# Altium schematic symbol library UCDFR Passives.SchLib: 41 symbols
Pins are listed as number, name and electrical type; pins without a type are passive.

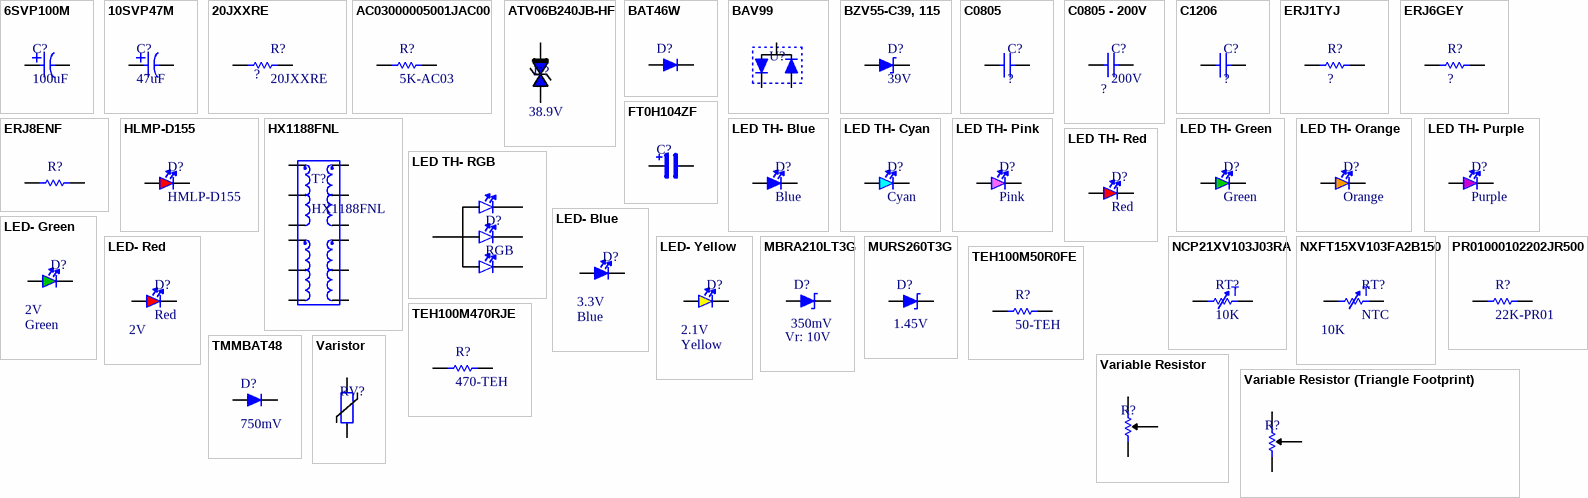
[diagram p0: symbols 6SVP100M to Varistor]

## 6SVP100M
designator C?, comment 100uF
Panasonic, Capacitor, Aluminum, 6.3V; Mfg. PN: 6SVP100M; Manufacturer: Panasonic; Digi-Key PN: P16595CT-ND; Value: 100uF
footprint 6SVP100M (Panasonic, Capacitor, Aluminum)
pins: 1 POS, 2 NEG

## 10SVP47M
designator C?, comment 47uF
Panasonic, Capacitor, Aluminum, 10V; Mfg. PN: 10SVP47M; Manufacturer: Panasonic; Digi-Key PN: P16436CT-ND; Value: 47uF
footprint 6SVP100M (Panasonic, Capacitor, Aluminum)
pins: 1 POS, 2 NEG

## 20JXXRE
designator R?
Ohmite, 10W Power Resistor; Manufacturer: Ohmite; Digi-Key PN: 20JXXRE-ND; Mfg. PN: 20JXXRE; Value: ?
footprint 20/40JXXRE (Ohmite Power Resistor)
pins: 1, 2

## AC03000005001JAC00
designator R?, comment 5K-AC03
Vishay, 3W, 5k, Power Resistor, Axial Lead; Mfg. PN: AC03000005001JAC00; Manufacturer: Vishay; Digi-Key PN: PPC3W5.0KCT-ND; Power: 3W; Value: 5K
footprint AC03 (Vishay AC03 Power Resistor)
pins: 1, 2

## ATV06B240JB-HF
designator D?, comment V: 38.9V  (hidden comment: TVS Diode)
Comchip, Bidirectional TVS, 38.9V Clamp, 24V Standoff, 600W Peak; Manufacturer: Comchip Technology; Mfg. PN: ATV06B240JB-HF; Digi-Key PN: 641-1571-1-ND
footprint DO-214AA (SMB) (Diode DO-214AA Package)
pins: 1 Cathode, 2 Anode

## BAT46W
designator D?  (value not drawn)
Diode Inc., .45Vf, Schottky Diode; Manufacturer: Diodes Inc.; Mfg. PN: BAT46W-7-F; Digi-Key PN: BAT46W-7FDICT-ND
footprint S0D123 (SOD123 Package)
pins: 1 Cathode, 2 Anode

## BAV99
designator U?  (value not drawn)
Fairchild, BAV99, 200mA, 70V Diode Pair; Manufacturer: Fairchild; Digi-Key PN: BAV99FSCT-ND; Mfg. PN: BAV99
footprint SOT-23
pins: 1, 2, 3

## BZV55-C39, 115
designator D?, comment 39V
NXP, 39V Zener Diode; Mfg. PN: BZV55-C39, 115; Digi-Key PN: 568-3793-1-ND; Zener Voltage: 39V
footprint MiniMELF (DO-213AA)
pins: 1 Cathode, 2 Anode

## C0805
designator C?, comment ?
0805, 50V; Manufacturer: ?; Digi-Key PN: ?; Mfg PN: ?; Value: ?
footprint 0805 (Capacitor) (0805)
footprint 0805 (Capacitor) (0805)
pins: 1, 2

## C0805 - 200V
designator C?, comment 200V
C0805, 200V; Value: ?
footprint 0805 (Capacitor) (0805)
pins: 1, 2

## C1206
designator C?, comment ?
1206 Capacitor; Manufacturer: ?; Digi-Key PN: ?; Mfg PN: ?; Value: ?
footprint 1206 (Capacitor) (1206)
pins: 1, 2

## ERJ1TYJ
designator R?, comment ?
Panasonic Electronics, SMD Resistor, 2512, 1Watt; Manufaturer: Panasonics Electronics; Value: ?
footprint 2512 (Resistor) (2512)
pins: 1, 2

## ERJ6GEY
designator R?, comment ?
Panasonic Electronics, SMD Resistor, 0805, 1/8Watt; Manufacturer: Panasonic Electronics; Digi-Key PN: ?; Value: ?
footprint 0805 (Resistor)
pins: 1, 2

## ERJ8ENF
designator R?, comment ?  (value not drawn)
Panasonic Electronics, SMD Resistor, 1206, 1/4Watt; Manufacturer: Panasonic Electronics; Digi-Key PN: ?; Value: ?
footprint 1206 (Resistor) (1206)
pins: 1, 2

## FT0H104ZF
designator C?, comment 100mF  (value not drawn)
Kemet, FT Series Capacitor; Mfg. PN: FT0H104ZF; Manufacturer: Kemet; Value: 100mF; Digi-Key PN: 399-10795-ND
footprint Kemet FT Supercapactor
pins: 1, 2

## HLMP-D155
designator D?, comment HMLP-D155
Avago, High Efficiency Red LED; Vf: 1.6V; Manufacturer: HMLP-D155; Mouser PN: 630-HLMP-D155; Color: Red
footprint HLMP-D115 (High Efficiency Red LED)
pins: 1 Cathode, 2 Anode

## HX1188FNL
designator T?
Pulse Electronics HX1188FNL, Dual Channel Transformer; Mfg. PN: HX1188FNL; Manufacturer: Pulse Electronics; Digi-Key PN: 553-2200-ND
footprint HX1188FNL (Pulse Electronics, HX1188FNL, Dual Channel Transformer)
pins: 1, 2, 3, 6, 7, 8, 9, 10, 11, 14, 15, 16

## LED TH- Blue
designator D?, comment Blue
Through Hole LED, 2.54mm Pitch; Vf: 1.6V; Color: Blue
footprint LED TH- Blue
pins: 1 Cathode, 2 Anode

## LED TH- Cyan
designator D?, comment Cyan
Through Hole LED, 2.54mm Pitch; Vf: 1.6V; Color: Cyan
footprint LED TH- Cyan
pins: 1 Cathode, 2 Anode

## LED TH- Green
designator D?, comment Green
Through Hole LED, 2.54mm Pitch; Vf: 1.6V; Color: Green
footprint LED TH- Green
pins: 1 Cathode, 2 Anode

## LED TH- Orange
designator D?, comment Orange
Through Hole LED, 2.54mm Pitch; Vf: 1.6V; Color: Orange
footprint LED TH- Orange
pins: 1 Cathode, 2 Anode

## LED TH- Pink
designator D?, comment Pink
Through Hole LED, 2.54mm Pitch; Vf: 1.6V; Color: Pink
footprint LED TH- Pink
pins: 1 Cathode, 2 Anode

## LED TH- Purple
designator D?, comment Purple
Through Hole LED, 2.54mm Pitch; Vf: 1.6V; Color: Purple
footprint LED TH- Purple
pins: 1 Cathode, 2 Anode

## LED TH- Red
designator D?, comment Red
Through Hole LED, 2.54mm Pitch; Vf: 1.6V; Color: Red
footprint LED TH- Red
pins: 1 Cathode, 2 Anode

## LED TH- RGB
designator D?, comment RGB
Through Hole LED, 1.27mm Pitch; Vf - Green: 3.2V; Vf - Red: 2V; Sparkfun PN: COM-10820; Color: RGB; Vf - Blue: 3.2V
footprint LED TH- RGB
pins: 1, 2, 3, 4

## LED- Blue
designator D?, comment Vf: 3.3V  (hidden comment: Blue)
Lite-On, 1206, Blue LED, 2V; Mfg. PN: LTST-C150TBKT; Digi-Key PN: 160-1643-1-ND; Color: Blue
footprint 1206 (LED) - Blue (OptoElectronics, 1206, LED, Blue)
pins: 1 Cathode, 2 Anode

## LED- Green
designator D?, comment Vf: 2V  (hidden comment: Green)
Lite-On, 1206, Green LED, 2V; Mfg. PN: LTST-C150KGKT; Digi-Key PN: 160-1404-1-ND; Color: Green
footprint 1206 (LED) - Green (OptoElectronics, 1206, LED, Green)
pins: 1 Cathode, 2 Anode

## LED- Red
designator D?, comment Red  Vf: 2V
Lite-On, 1206, Red LED, 2V; Mfg. PN: LTST-C150KRKT; Digi-Key PN: 160-1405-1-ND; Color: Red
footprint 1206 (LED) - Red (OptoElectronics, 1206, LED, Red)
pins: 1 Cathode, 2 Anode

## LED- Yellow
designator D?, comment Vf: 2.1V  (hidden comment: Yellow)
Lite-On, 1206, Yellow LED, 2V; Mfg. PN: LTST-C150KSKT; Digi-Key PN: 160-1406-1-ND; Color: Yellow
footprint 1206 (LED) - Yellow (OptoElectronics, 1206, LED, Yellow)
pins: 1 Cathode, 2 Anode

## MBRA210LT3G
designator D?  Vf: 350mV  Vr: 10V  (hidden comment: MBRA210LT3G)
ON Schottky Didoe, .35V Forward Voltage, 10V Reverse Voltage; Manufacturer: ON Semiconductor; Mfg. PN: MBRA210LT3G; Digi-Key PN: MBRA210LT3GOSCT-ND
footprint DO-214AC (SMA) (Diode DO-214AC Package)
pins: 1 Cathode, 2 Anode

## MURS260T3G
designator D?  Vf: 1.45V  (hidden comment: MURS260T3G)
ON Schottky Didoe, 1.45V Forward Voltage, 600V Reverse Voltage; Manufacturer: ON Semiconductor; Mfg. PN: MURS260T3G; Digi-Key PN: MURS260T3GOSCT-ND; Vr: 600V
footprint DO-214AC (SMA) (Diode DO-214AC Package)
pins: 1 Cathode, 2 Anode

## NCP21XV103J03RA
designator RT?, comment 10K
Murata, 10K, Thermistor; Manufacturer: Murata Electronics; Mfg. PN: NCP21XV103J03RA; Digi-Key PN: 490-2456-1-ND
footprint 0805 (Resistor)
pins: 1, 2
text: T

## NXFT15XV103FA2B150
designator RT?, comment NTC  value 10K
Murata NTC, 10K, Through Hole Thermistor; Mfg. PN: NXFT15XV103FA2B150; Mouser PN: 81-NXFT15XV103FA2B15
footprint NXFT15XV103FA2B150 (Murata, NTC Through Hole Thermistor)
pins: 1, 2
text: T

## PR01000102202JR500
designator R?, comment 22K-PR01
Vishay, 1W, 22k, Power Resistor, Axial Lead; Mfg. PN: PR01000102202JR500; Manufacturer: Vishay; Digi-Key PN: PPC22KW-1CT-ND; Power: 1W; Value: 22K
footprint PR01 (Vishay PR01 Power Resistor)
pins: 1, 2

## TEH100M50R0FE
designator R?, comment 50-TEH
Ohmite, T0-247, Power Resistor; Value: 50; Mfg. PN: TEH100M50R0FE; Manufacturer: Ohmite; Digi-Key PN: TEH100M50R0FE-ND
footprint TO-247 (TO-247 Package)
pins: 1, 2

## TEH100M470RJE
designator R?, comment 470-TEH
Ohmite, T0-247, Power Resistor; Value: 470; Mfg. PN: TEH100M470RJE; Manufacturer: Ohmite; Digi-Key PN: TEH100M470RJE-ND
footprint TO-247 (TO-247 Package)
pins: 1, 2

## TMMBAT48
designator D?  Vf: 750mV  (hidden comment: TMMBAT48)
ST, Schottky Diode, 0.75Vf, 40Vr, 350mA; Manufacturer: ST Microelectronics; Mfg. PN: TMMBAT48FILM; Vr: 40V; Digi-Key PN: 497-3274-1-ND
footprint MiniMELF (DO-213AA)
pins: 1 Cathode, 2 Anode

## Variable Resistor
designator R?, comment Trimmer Pot  (value not drawn)
Trimmer Potentiometer
footprint Variable Resistor
pins: 1, 2, 3
2 alternate drawings of the same symbol

## Variable Resistor (Triangle Footprint)
designator R?, comment Trimmer Pot  (value not drawn)
Trimmer Potentiometer
footprint Variable Resistor (Triangle Footprint)
pins: 1, 2, 3
2 alternate drawings of the same symbol

## Varistor
designator RV?  (value not drawn)
Manufacturer: *; Mfg PN: *
footprint MOV- 1/2" Lead Spacing
pins: 1, 2

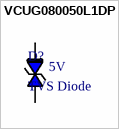
[diagram p1: symbol VCUG080050L1DP]

## VCUG080050L1DP
designator D?, comment TVS Diode  V: 5V
AVX, TVS Diode, 5V Clamp, 40A; Mfg. PN: VCUG080050L1DP; Digi-Key PN: 478-5584-1-ND
footprint 0805 (TVS) (AVX, 0805, TVS Diode)
pins: 1 Cathode, 2 Anode